# Altium schematic symbol library mcu.SchLib: 76 symbols (part 2 of 2)
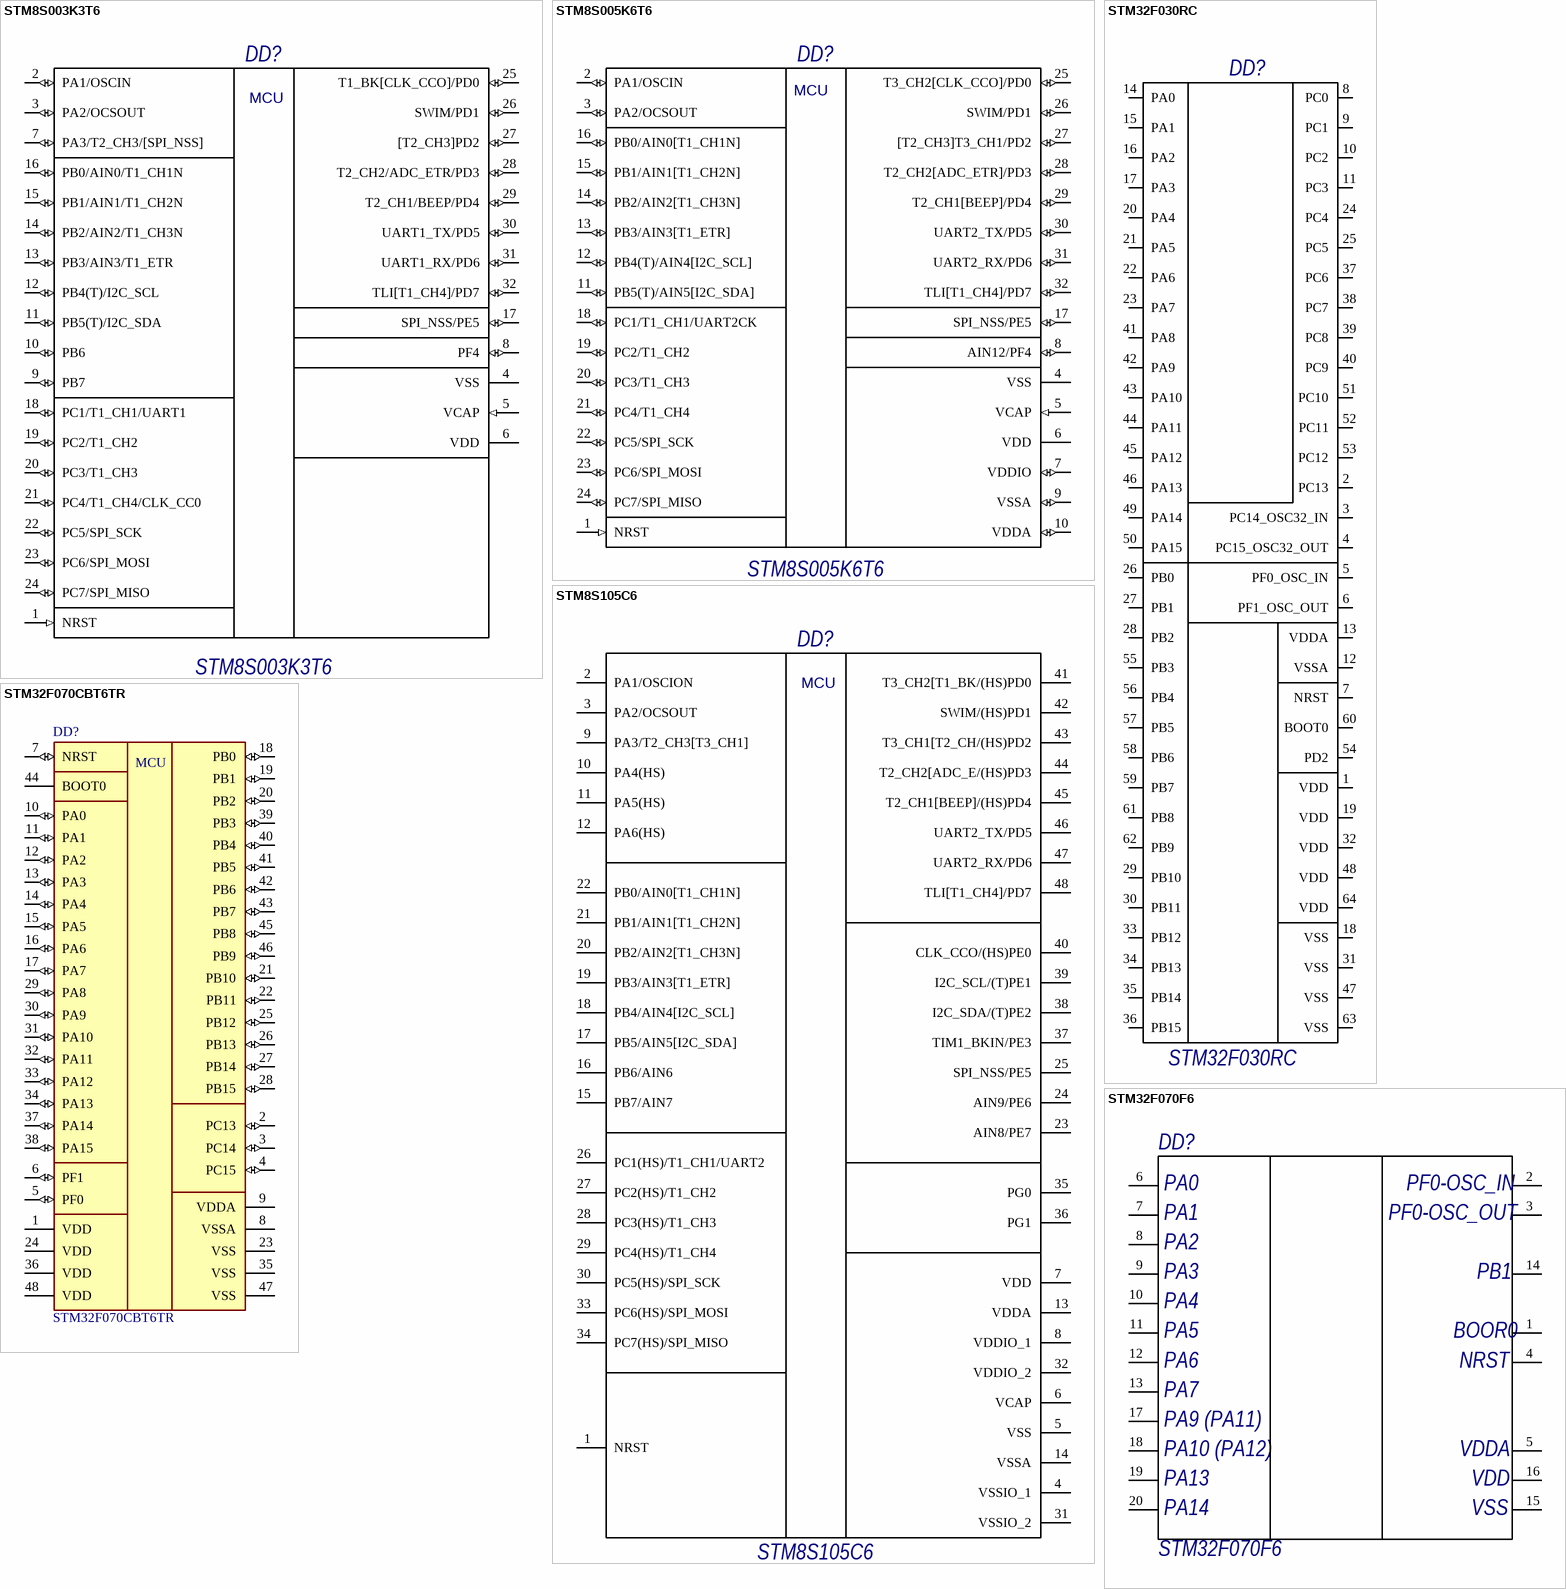
[diagram p14: symbols STM8S003K3T6 to STM32F070F6]

## STM32F070CBT6TR
designator DD?
IC, MCU, LQFP-48, 32-bit ARM Cortex-M0, 48Mhz, flash 128kb (ф.ST)
footprint LQFP48
pins: 1 VDD (power) "Digital power supply", 2 PC13 (io) "WKUP2,  RTC_TAMP1,  RTC_TS,  RTC_OUT", 3 PC14 (io) "OSC32_IN", 4 PC15 (io) "OSC32_OU", 5 PF0 (io) "I2C1_SDA, OSC_IN", 6 PF1 (io) "I2C1_SCL, OSC_OUT", 7 NRST (io) "Device reset input / internal reset output (active low)", 8 VSSA (power) "Analog ground", 9 VDDA (power) "Analog power supply", 10 PA0 (io) "USART2_CTS,  USART4_TX  RTC_ TAMP2,  WKUP1, ADC_IN0,", 11 PA1 (io) "USART2_RTS,  TIM15_CH1N,  USART4_RX, EVENTOUT  ADC_IN1", 12 PA2 (io) "USART2_TX, TIM15_CH1 ADC_IN2, WKUP4", 13 PA3 (io) "USART2_RX, TIM15_CH2 ADC_IN3", 14 PA4 (io) "SPI1_NSS, TIM14_CH1,  USART2_CK,  USB_NOE(3)  ADC_IN4", 15 PA5 (io) "SPI1_SCK ADC_IN5", 16 PA6 (io) "SPI1_MISO, TIM3_CH1,  TIM1_BKIN,  TIM16_CH1, EVENTOUT,  USART3_CTS  ADC_IN6", 17 PA7 (io) "SPI1_MOSI, TIM3_CH2,  TIM14_CH1,  TIM1_CH1N, TIM17_CH1,  EVENTOUT  ADC_IN7", 18 PB0 (io) "TIM3_CH3, TIM1_CH2N,  EVENTOUT,  USART3_CK  ADC_IN8", 19 PB1 (io) "TIM3_CH4,  USART3_RTS,  TIM14_CH1, TIM1_CH3N  ADC_IN9", 20 PB2 (io), 21 PB10 (io) "SPI2_SCK, USART3_TX", 22 PB11 (io) "USART3_RX,  EVENTOUT, I2C2_SDA", 23 VSS (power) "Graound", 24 VDD (power) "Digital power supply", 25 PB12 (io) "TIM1_BKIN, TIM15_BKIN,  SPI2_NSS, EVENTOUT,  USART3_CK", 26 PB13 (io) "SPI2_SCK, I2C2_SCL,  TIM1_CH1N,  USART3_CTS", 27 PB14 (io) "SPI2_MISO, I2C2_SDA,  TIM1_CH2N, TIM15_CH1,  USART3_RTS", 28 PB15 (io) "SPI2_MOSI, TIM1_CH3N,  TIM15_CH1N,  TIM15_CH2  WKUP7,  RTC_REFIN", 29 PA8 (io) "USART1_CK, TIM1_CH1,  EVENTOUT, MCO", 30 PA9 (io) "USART1_TX, TIM1_CH2,  TIM15_BKIN,  I2C1_SCL", 31 PA10 (io) "USART1_RX, TIM1_CH3,  TIM17_BKIN,  I2C1_SDA", 32 PA11 (io) "USART1_CTS,  TIM1_CH4, EVENTOUT USB_DM", 33 PA12 (io) "USART1_RTS,  TIM1_ETR, EVENTOUT USB_DP", 34 PA13 (io) "IR_OUT, SWDIO,  USB_NOE", 35 VSS (power) "Ground", 36 VDD (power) "Digital power supply", 37 PA14 (io) "USART2_TX, SWCLK", 38 PA15 (io) "SPI1_NSS, USART2_RX,  USART4_RTS,  EVENTOUT", 39 PB3 (io) "SPI1_SCK, EVENTOUT", 40 PB4 (io) "SPI1_MISO, TIM17_BKIN,  TIM3_CH1, EVENTOUT", 41 PB5 (io) "SPI1_MOSI, I2C1_SMBA,  TIM16_BKIN,  TIM3_CH2  WKUP6", 42 PB6 (io) "I2C1_SCL, USART1_TX,  TIM16_CH1N", 43 PB7 (io) "I2C1_SDA, USART1_RX,  USART4_CTS,  TIM17_C", 44 BOOT0 "Boot memory selection", 45 PB8 (io) "I2C1_SCL, TIM16_CH1", 46 PB9 (io) "SPI2_NSS, I2C1_SDA,  IR_OUT,  TIM17_CH1, EVENTOUT", 47 VSS (power) "Ground", 48 VDD (power) "Digital power supply"
text: MCU

## STM32F070F6
designator DD?
footprint TSSOP-20
pins: 1, 2, 3, 4, 5, 6, 7, 8, 9, 10, 11, 12, 13, 14, 15, 16, 17, 18, 19, 20
text: PA0; PF0-OSC_IN; PA1; PF0-OSC_OUT; PA2; PA3; PB1; PA4; PA5; BOOR0; PA6; NRST; PA7; PA9 (PA11); PA10 (PA12); VDDA; PA13; VDD; PA14; VSS

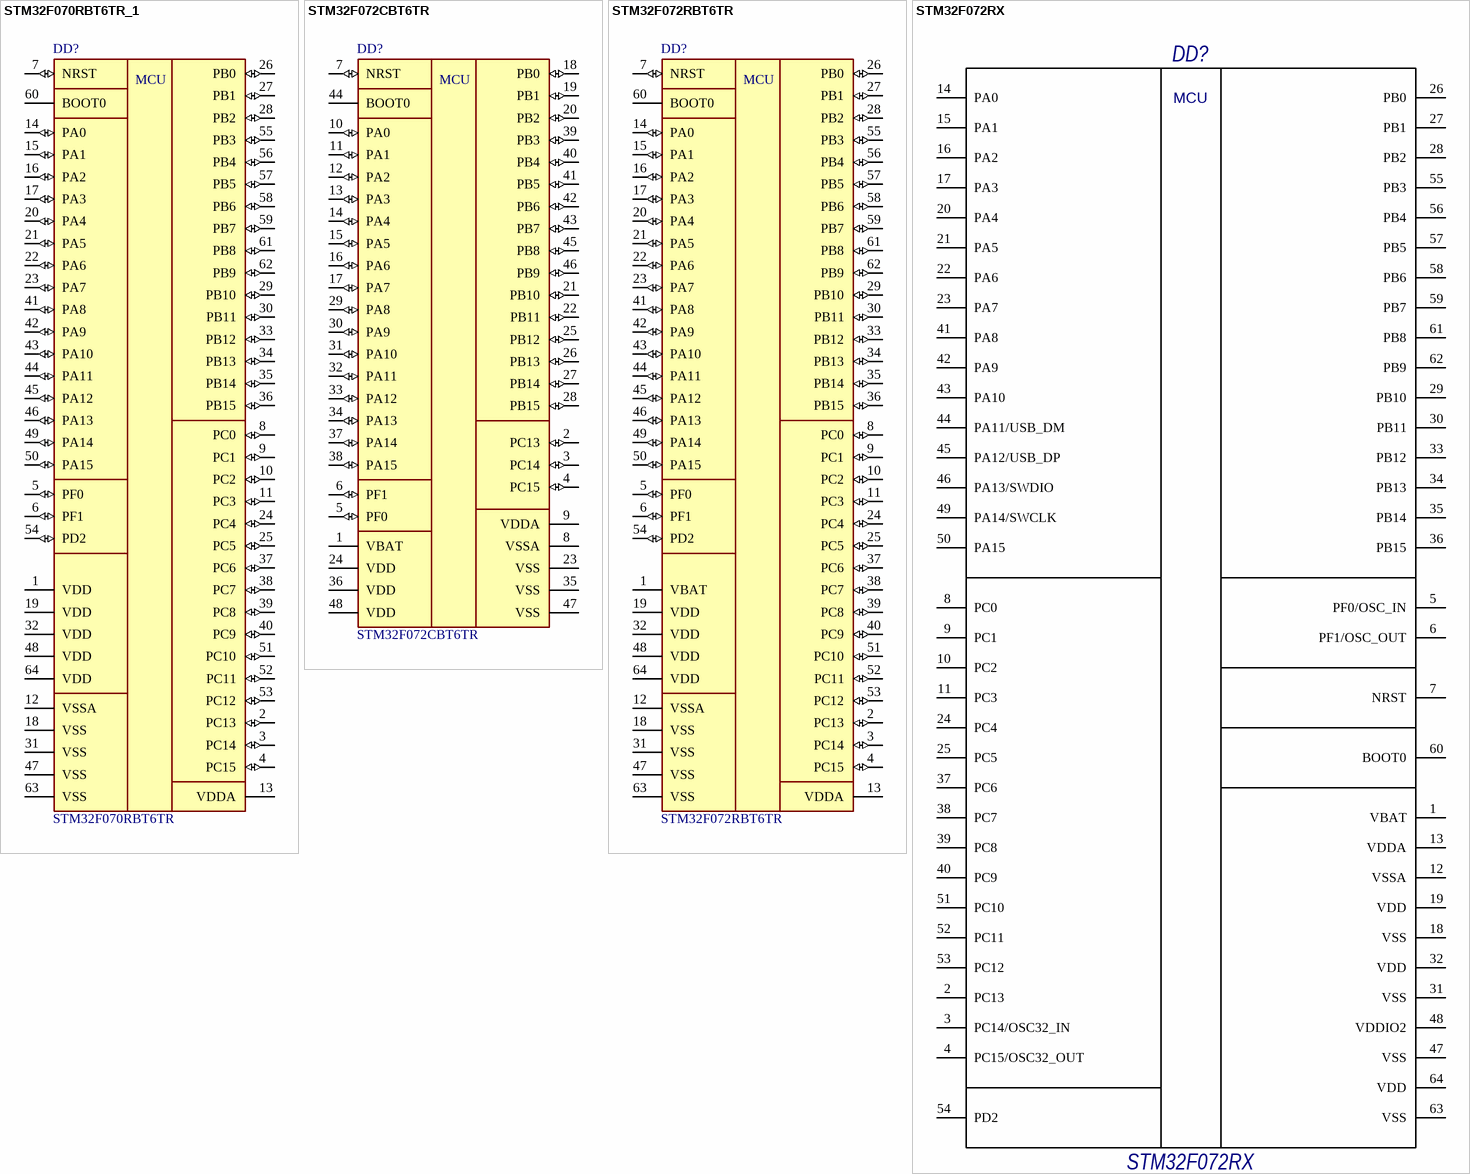
[diagram p12: symbols STM32F070RBT6TR_1 to STM32F072RX]

## STM32F070RBT6TR_1
designator DD?, comment STM32F070RBT6TR
IC, MCU, LQFP-64, 32-bit ARM Cortex-M0, 48Mhz, flash 128kb (ST); Naimenovanie: STM32F070RBT6TR ST; Tested: OK; Naimenovanie_eng: STM32F070RBT6TR ST
footprint LQFP64
pins: 1 VDD (power) "Digital power supply", 2 PC13 (io) "WKUP2,  RTC_TAMP1,  RTC_TS,  RTC_OUT", 3 PC14 (io) "OSC32_IN", 4 PC15 (io) "OSC32_OU", 5 PF0 (io) "I2C1_SDA, OSC_IN", 6 PF1 (io) "I2C1_SCL, OSC_OUT", 7 NRST (io) "Device reset input / internal reset output (active low)", 8 PC0 (io), 9 PC1 (io), 10 PC2 (io), 11 PC3 (io), 12 VSSA (power) "Analog ground", 13 VDDA (power) "Analog power supply", 14 PA0 (io) "USART2_CTS,  USART4_TX  RTC_ TAMP2,  WKUP1, ADC_IN0,", 15 PA1 (io) "USART2_RTS,  TIM15_CH1N,  USART4_RX, EVENTOUT  ADC_IN1", 16 PA2 (io) "USART2_TX, TIM15_CH1 ADC_IN2, WKUP4", 17 PA3 (io) "USART2_RX, TIM15_CH2 ADC_IN3", 18 VSS (power) "Graound", 19 VDD (power) "Digital power supply", 20 PA4 (io) "SPI1_NSS, TIM14_CH1,  USART2_CK,  USB_NOE(3)  ADC_IN4", 21 PA5 (io) "SPI1_SCK ADC_IN5", 22 PA6 (io) "SPI1_MISO, TIM3_CH1,  TIM1_BKIN,  TIM16_CH1, EVENTOUT,  USART3_CTS  ADC_IN6", 23 PA7 (io) "SPI1_MOSI, TIM3_CH2,  TIM14_CH1,  TIM1_CH1N, TIM17_CH1,  EVENTOUT  ADC_IN7", 24 PC4 (io), 25 PC5 (io), 26 PB0 (io) "TIM3_CH3, TIM1_CH2N,  EVENTOUT,  USART3_CK  ADC_IN8", 27 PB1 (io) "TIM3_CH4,  USART3_RTS,  TIM14_CH1, TIM1_CH3N  ADC_IN9", 28 PB2 (io), 29 PB10 (io) "SPI2_SCK, USART3_TX", 30 PB11 (io) "USART3_RX,  EVENTOUT, I2C2_SDA", 31 VSS (power) "Graound", 32 VDD (power) "Digital power supply", 33 PB12 (io) "TIM1_BKIN, TIM15_BKIN,  SPI2_NSS, EVENTOUT,  USART3_CK", 34 PB13 (io) "SPI2_SCK, I2C2_SCL,  TIM1_CH1N,  USART3_CTS", 35 PB14 (io) "SPI2_MISO, I2C2_SDA,  TIM1_CH2N, TIM15_CH1,  USART3_RTS", 36 PB15 (io) "SPI2_MOSI, TIM1_CH3N,  TIM15_CH1N,  TIM15_CH2  WKUP7,  RTC_REFIN", 37 PC6 (io), 38 PC7 (io), 39 PC8 (io), 40 PC9 (io), 41 PA8 (io) "USART1_CK, TIM1_CH1,  EVENTOUT, MCO", 42 PA9 (io) "USART1_TX, TIM1_CH2,  TIM15_BKIN,  I2C1_SCL", 43 PA10 (io) "USART1_RX, TIM1_CH3,  TIM17_BKIN,  I2C1_SDA", 44 PA11 (io) "USART1_CTS,  TIM1_CH4, EVENTOUT USB_DM", 45 PA12 (io) "USART1_RTS,  TIM1_ETR, EVENTOUT USB_DP", 46 PA13 (io) "IR_OUT, SWDIO,  USB_NOE", 47 VSS (power) "Ground", 48 VDD (power) "Digital power supply", 49 PA14 (io) "USART2_TX, SWCLK", 50 PA15 (io) "SPI1_NSS, USART2_RX,  USART4_RTS,  EVENTOUT", 51 PC10 (io), 52 PC11 (io), 53 PC12 (io), 54 PD2 (io), 55 PB3 (io) "SPI1_SCK, EVENTOUT", 56 PB4 (io) "SPI1_MISO, TIM17_BKIN,  TIM3_CH1, EVENTOUT", 57 PB5 (io) "SPI1_MOSI, I2C1_SMBA,  TIM16_BKIN,  TIM3_CH2  WKUP6", 58 PB6 (io) "I2C1_SCL, USART1_TX,  TIM16_CH1N", 59 PB7 (io) "I2C1_SDA, USART1_RX,  USART4_CTS,  TIM17_C", 60 BOOT0 "Boot memory selection", 61 PB8 (io) "I2C1_SCL, TIM16_CH1", 62 PB9 (io) "SPI2_NSS, I2C1_SDA,  IR_OUT,  TIM17_CH1, EVENTOUT", 63 VSS (power) "Ground", 64 VDD (power) "Digital power supply"
text: MCU

## STM32F072CBT6TR
designator DD?
IC, MCU, LQFP-48, 32-bit ARM Cortex-M0, 48Mhz, flash 128kb (ф.ST)
footprint LQFP48
pins: 1 VBAT (power) "Digital power supply", 2 PC13 (io) "WKUP2,  RTC_TAMP1,  RTC_TS,  RTC_OUT", 3 PC14 (io) "OSC32_IN", 4 PC15 (io) "OSC32_OU", 5 PF0 (io) "I2C1_SDA, OSC_IN", 6 PF1 (io) "I2C1_SCL, OSC_OUT", 7 NRST (io) "Device reset input / internal reset output (active low)", 8 VSSA (power) "Analog ground", 9 VDDA (power) "Analog power supply", 10 PA0 (io) "USART2_CTS,  USART4_TX  RTC_ TAMP2,  WKUP1, ADC_IN0,", 11 PA1 (io) "USART2_RTS,  TIM15_CH1N,  USART4_RX, EVENTOUT  ADC_IN1", 12 PA2 (io) "USART2_TX, TIM15_CH1 ADC_IN2, WKUP4", 13 PA3 (io) "USART2_RX, TIM15_CH2 ADC_IN3", 14 PA4 (io) "SPI1_NSS, TIM14_CH1,  USART2_CK,  USB_NOE(3)  ADC_IN4", 15 PA5 (io) "SPI1_SCK ADC_IN5", 16 PA6 (io) "SPI1_MISO, TIM3_CH1,  TIM1_BKIN,  TIM16_CH1, EVENTOUT,  USART3_CTS  ADC_IN6", 17 PA7 (io) "SPI1_MOSI, TIM3_CH2,  TIM14_CH1,  TIM1_CH1N, TIM17_CH1,  EVENTOUT  ADC_IN7", 18 PB0 (io) "TIM3_CH3, TIM1_CH2N,  EVENTOUT,  USART3_CK  ADC_IN8", 19 PB1 (io) "TIM3_CH4,  USART3_RTS,  TIM14_CH1, TIM1_CH3N  ADC_IN9", 20 PB2 (io), 21 PB10 (io) "SPI2_SCK, USART3_TX", 22 PB11 (io) "USART3_RX,  EVENTOUT, I2C2_SDA", 23 VSS (power) "Graound", 24 VDD (power) "Digital power supply", 25 PB12 (io) "TIM1_BKIN, TIM15_BKIN,  SPI2_NSS, EVENTOUT,  USART3_CK", 26 PB13 (io) "SPI2_SCK, I2C2_SCL,  TIM1_CH1N,  USART3_CTS", 27 PB14 (io) "SPI2_MISO, I2C2_SDA,  TIM1_CH2N, TIM15_CH1,  USART3_RTS", 28 PB15 (io) "SPI2_MOSI, TIM1_CH3N,  TIM15_CH1N,  TIM15_CH2  WKUP7,  RTC_REFIN", 29 PA8 (io) "USART1_CK, TIM1_CH1,  EVENTOUT, MCO", 30 PA9 (io) "USART1_TX, TIM1_CH2,  TIM15_BKIN,  I2C1_SCL", 31 PA10 (io) "USART1_RX, TIM1_CH3,  TIM17_BKIN,  I2C1_SDA", 32 PA11 (io) "USART1_CTS,  TIM1_CH4, EVENTOUT USB_DM", 33 PA12 (io) "USART1_RTS,  TIM1_ETR, EVENTOUT USB_DP", 34 PA13 (io) "IR_OUT, SWDIO,  USB_NOE", 35 VSS (power) "Ground", 36 VDD (power) "Digital power supply", 37 PA14 (io) "USART2_TX, SWCLK", 38 PA15 (io) "SPI1_NSS, USART2_RX,  USART4_RTS,  EVENTOUT", 39 PB3 (io) "SPI1_SCK, EVENTOUT", 40 PB4 (io) "SPI1_MISO, TIM17_BKIN,  TIM3_CH1, EVENTOUT", 41 PB5 (io) "SPI1_MOSI, I2C1_SMBA,  TIM16_BKIN,  TIM3_CH2  WKUP6", 42 PB6 (io) "I2C1_SCL, USART1_TX,  TIM16_CH1N", 43 PB7 (io) "I2C1_SDA, USART1_RX,  USART4_CTS,  TIM17_C", 44 BOOT0 "Boot memory selection", 45 PB8 (io) "I2C1_SCL, TIM16_CH1", 46 PB9 (io) "SPI2_NSS, I2C1_SDA,  IR_OUT,  TIM17_CH1, EVENTOUT", 47 VSS (power) "Ground", 48 VDD (power) "Digital power supply"
text: MCU

## STM32F072RBT6TR
designator DD?
IC, MCU, LQFP-64, 32-bit ARM Cortex-M0, 48Mhz, flash 128kb (ST); Naimenovanie: STM32F070RBT6TR ST; Tested: OK; Naimenovanie_eng: STM32F070RBT6TR ST
footprint LQFP64
pins: 1 VBAT (power) "Digital power supply", 2 PC13 (io) "WKUP2,  RTC_TAMP1,  RTC_TS,  RTC_OUT", 3 PC14 (io) "OSC32_IN", 4 PC15 (io) "OSC32_OU", 5 PF0 (io) "I2C1_SDA, OSC_IN", 6 PF1 (io) "I2C1_SCL, OSC_OUT", 7 NRST (io) "Device reset input / internal reset output (active low)", 8 PC0 (io), 9 PC1 (io), 10 PC2 (io), 11 PC3 (io), 12 VSSA (power) "Analog ground", 13 VDDA (power) "Analog power supply", 14 PA0 (io) "USART2_CTS,  USART4_TX  RTC_ TAMP2,  WKUP1, ADC_IN0,", 15 PA1 (io) "USART2_RTS,  TIM15_CH1N,  USART4_RX, EVENTOUT  ADC_IN1", 16 PA2 (io) "USART2_TX, TIM15_CH1 ADC_IN2, WKUP4", 17 PA3 (io) "USART2_RX, TIM15_CH2 ADC_IN3", 18 VSS (power) "Graound", 19 VDD (power) "Digital power supply", 20 PA4 (io) "SPI1_NSS, TIM14_CH1,  USART2_CK,  USB_NOE(3)  ADC_IN4", 21 PA5 (io) "SPI1_SCK ADC_IN5", 22 PA6 (io) "SPI1_MISO, TIM3_CH1,  TIM1_BKIN,  TIM16_CH1, EVENTOUT,  USART3_CTS  ADC_IN6", 23 PA7 (io) "SPI1_MOSI, TIM3_CH2,  TIM14_CH1,  TIM1_CH1N, TIM17_CH1,  EVENTOUT  ADC_IN7", 24 PC4 (io), 25 PC5 (io), 26 PB0 (io) "TIM3_CH3, TIM1_CH2N,  EVENTOUT,  USART3_CK  ADC_IN8", 27 PB1 (io) "TIM3_CH4,  USART3_RTS,  TIM14_CH1, TIM1_CH3N  ADC_IN9", 28 PB2 (io), 29 PB10 (io) "SPI2_SCK, USART3_TX", 30 PB11 (io) "USART3_RX,  EVENTOUT, I2C2_SDA", 31 VSS (power) "Graound", 32 VDD (power) "Digital power supply", 33 PB12 (io) "TIM1_BKIN, TIM15_BKIN,  SPI2_NSS, EVENTOUT,  USART3_CK", 34 PB13 (io) "SPI2_SCK, I2C2_SCL,  TIM1_CH1N,  USART3_CTS", 35 PB14 (io) "SPI2_MISO, I2C2_SDA,  TIM1_CH2N, TIM15_CH1,  USART3_RTS", 36 PB15 (io) "SPI2_MOSI, TIM1_CH3N,  TIM15_CH1N,  TIM15_CH2  WKUP7,  RTC_REFIN", 37 PC6 (io), 38 PC7 (io), 39 PC8 (io), 40 PC9 (io), 41 PA8 (io) "USART1_CK, TIM1_CH1,  EVENTOUT, MCO", 42 PA9 (io) "USART1_TX, TIM1_CH2,  TIM15_BKIN,  I2C1_SCL", 43 PA10 (io) "USART1_RX, TIM1_CH3,  TIM17_BKIN,  I2C1_SDA", 44 PA11 (io) "USART1_CTS,  TIM1_CH4, EVENTOUT USB_DM", 45 PA12 (io) "USART1_RTS,  TIM1_ETR, EVENTOUT USB_DP", 46 PA13 (io) "IR_OUT, SWDIO,  USB_NOE", 47 VSS (power) "Ground", 48 VDD (power) "Digital power supply", 49 PA14 (io) "USART2_TX, SWCLK", 50 PA15 (io) "SPI1_NSS, USART2_RX,  USART4_RTS,  EVENTOUT", 51 PC10 (io), 52 PC11 (io), 53 PC12 (io), 54 PD2 (io), 55 PB3 (io) "SPI1_SCK, EVENTOUT", 56 PB4 (io) "SPI1_MISO, TIM17_BKIN,  TIM3_CH1, EVENTOUT", 57 PB5 (io) "SPI1_MOSI, I2C1_SMBA,  TIM16_BKIN,  TIM3_CH2  WKUP6", 58 PB6 (io) "I2C1_SCL, USART1_TX,  TIM16_CH1N", 59 PB7 (io) "I2C1_SDA, USART1_RX,  USART4_CTS,  TIM17_C", 60 BOOT0 "Boot memory selection", 61 PB8 (io) "I2C1_SCL, TIM16_CH1", 62 PB9 (io) "SPI2_NSS, I2C1_SDA,  IR_OUT,  TIM17_CH1, EVENTOUT", 63 VSS (power) "Ground", 64 VDD (power) "Digital power supply"
text: MCU

## STM32F072RX
designator DD?
Value: *
footprint LQFP-64
pins: 1 VBAT, 2 PC13, 3 PC14/OSC32_IN, 4 PC15/OSC32_OUT, 5 PF0/OSC_IN, 6 PF1/OSC_OUT, 7 NRST, 8 PC0, 9 PC1, 10 PC2, 11 PC3, 12 VSSA, 13 VDDA, 14 PA0, 15 PA1, 16 PA2, 17 PA3, 18 VSS, 19 VDD, 20 PA4, 21 PA5, 22 PA6, 23 PA7, 24 PC4, 25 PC5, 26 PB0, 27 PB1, 28 PB2, 29 PB10, 30 PB11, 31 VSS, 32 VDD, 33 PB12, 34 PB13, 35 PB14, 36 PB15, 37 PC6, 38 PC7, 39 PC8, 40 PC9, 41 PA8, 42 PA9, 43 PA10, 44 PA11/USB_DM, 45 PA12/USB_DP, 46 PA13/SWDIO, 47 VSS, 48 VDDIO2, 49 PA14/SWCLK, 50 PA15, 51 PC10, 52 PC11, 53 PC12, 54 PD2, 55 PB3, 56 PB4, 57 PB5, 58 PB6, 59 PB7, 60 BOOT0, 61 PB8, 62 PB9, 63 VSS, 64 VDD
text: MCU

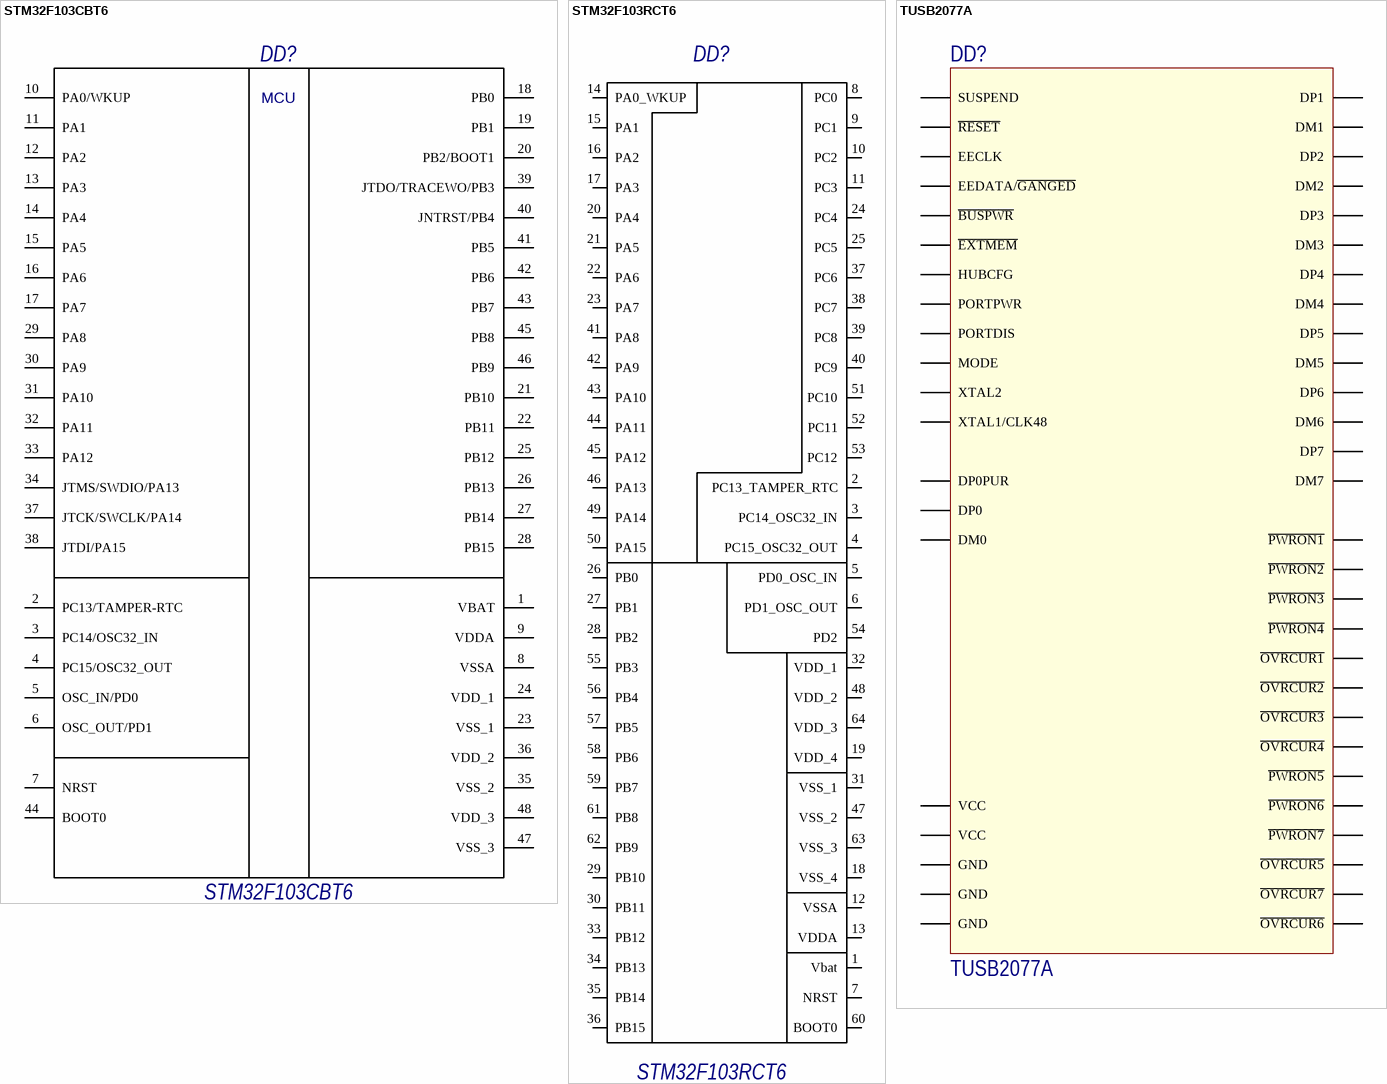
[diagram p13: symbols STM32F103CBT6 to TUSB2077A]

## STM32F103CBT6
designator DD?
Value: *
footprint LQFP-48
pins: 1 VBAT, 2 PC13/TAMPER-RTC, 3 PC14/OSC32_IN, 4 PC15/OSC32_OUT, 5 OSC_IN/PD0, 6 OSC_OUT/PD1, 7 NRST, 8 VSSA, 9 VDDA, 10 PA0/WKUP, 11 PA1, 12 PA2, 13 PA3, 14 PA4, 15 PA5, 16 PA6, 17 PA7, 18 PB0, 19 PB1, 20 PB2/BOOT1, 21 PB10, 22 PB11, 23 VSS_1, 24 VDD_1, 25 PB12, 26 PB13, 27 PB14, 28 PB15, 29 PA8, 30 PA9, 31 PA10, 32 PA11, 33 PA12, 34 JTMS/SWDIO/PA13, 35 VSS_2, 36 VDD_2, 37 JTCK/SWCLK/PA14, 38 JTDI/PA15, 39 JTDO/TRACEWO/PB3, 40 JNTRST/PB4, 41 PB5, 42 PB6, 43 PB7, 44 BOOT0, 45 PB8, 46 PB9, 47 VSS_3, 48 VDD_3
text: MCU

## STM32F103RCT6
designator DD?
Value: *
footprint LQFP-64-MSP430F235
pins: 1 Vbat, 2 PC13_TAMPER_RTC, 3 PC14_OSC32_IN, 4 PC15_OSC32_OUT, 5 PD0_OSC_IN, 6 PD1_OSC_OUT, 7 NRST, 8 PC0, 9 PC1, 10 PC2, 11 PC3, 12 VSSA, 13 VDDA, 14 PA0_WKUP, 15 PA1, 16 PA2, 17 PA3, 18 VSS_4, 19 VDD_4, 20 PA4, 21 PA5, 22 PA6, 23 PA7, 24 PC4, 25 PC5, 26 PB0, 27 PB1, 28 PB2, 29 PB10, 30 PB11, 31 VSS_1, 32 VDD_1, 33 PB12, 34 PB13, 35 PB14, 36 PB15, 37 PC6, 38 PC7, 39 PC8, 40 PC9, 41 PA8, 42 PA9, 43 PA10, 44 PA11, 45 PA12, 46 PA13, 47 VSS_2, 48 VDD_2, 49 PA14, 50 PA15, 51 PC10, 52 PC11, 53 PC12, 54 PD2, 55 PB3, 56 PB4, 57 PB5, 58 PB6, 59 PB7, 60 BOOT0, 61 PB8, 62 PB9, 63 VSS_3, 64 VDD_3

## TUSB2077A
designator DD?
7-Port Hub for the Universal Serial Bus
footprint LQFP-48
pins: 1 SUSPEND, 2 DP0PUR, 3 DP0, 4 DM0, 5 GND, 6 ~{RESET}, 7 EECLK, 8 EEDATA/~{GANGED}, 9 VCC, 10 ~{BUSPWR}, 11 ~{PWRON1}, 12 ~{OVRCUR1}, 13 DM1, 14 DP1, 15 ~{PWRON2}, 16 ~{OVRCUR2}, 17 DM2, 18 DP2, 19 ~{PWRON3}, 20 ~{OVRCUR3}, 21 DM3, 22 DP3, 23 ~{PWRON4}, 24 GND, 25 ~{OVRCUR4}, 26 DM4, 27 DP4, 28 ~{PWRON5}, 29 ~{OVRCUR5}, 30 DM5, 31 DP5, 32 ~{PWRON6}, 33 ~{OVRCUR6}, 34 DM6, 35 DP6, 36 ~{PWRON7}, 37 ~{OVRCUR7}, 38 DM7, 39 DP7, 40 HUBCFG, 41 PORTPWR, 42 PORTDIS, 43 GND, 44 XTAL2, 45 XTAL1/CLK48, 46 VCC, 47 ~{EXTMEM}, 48 MODE